# Altium schematic symbol library Active-Relay.SchLib: 33 symbols
Pins are listed as number, name and electrical type; pins without a type are passive.

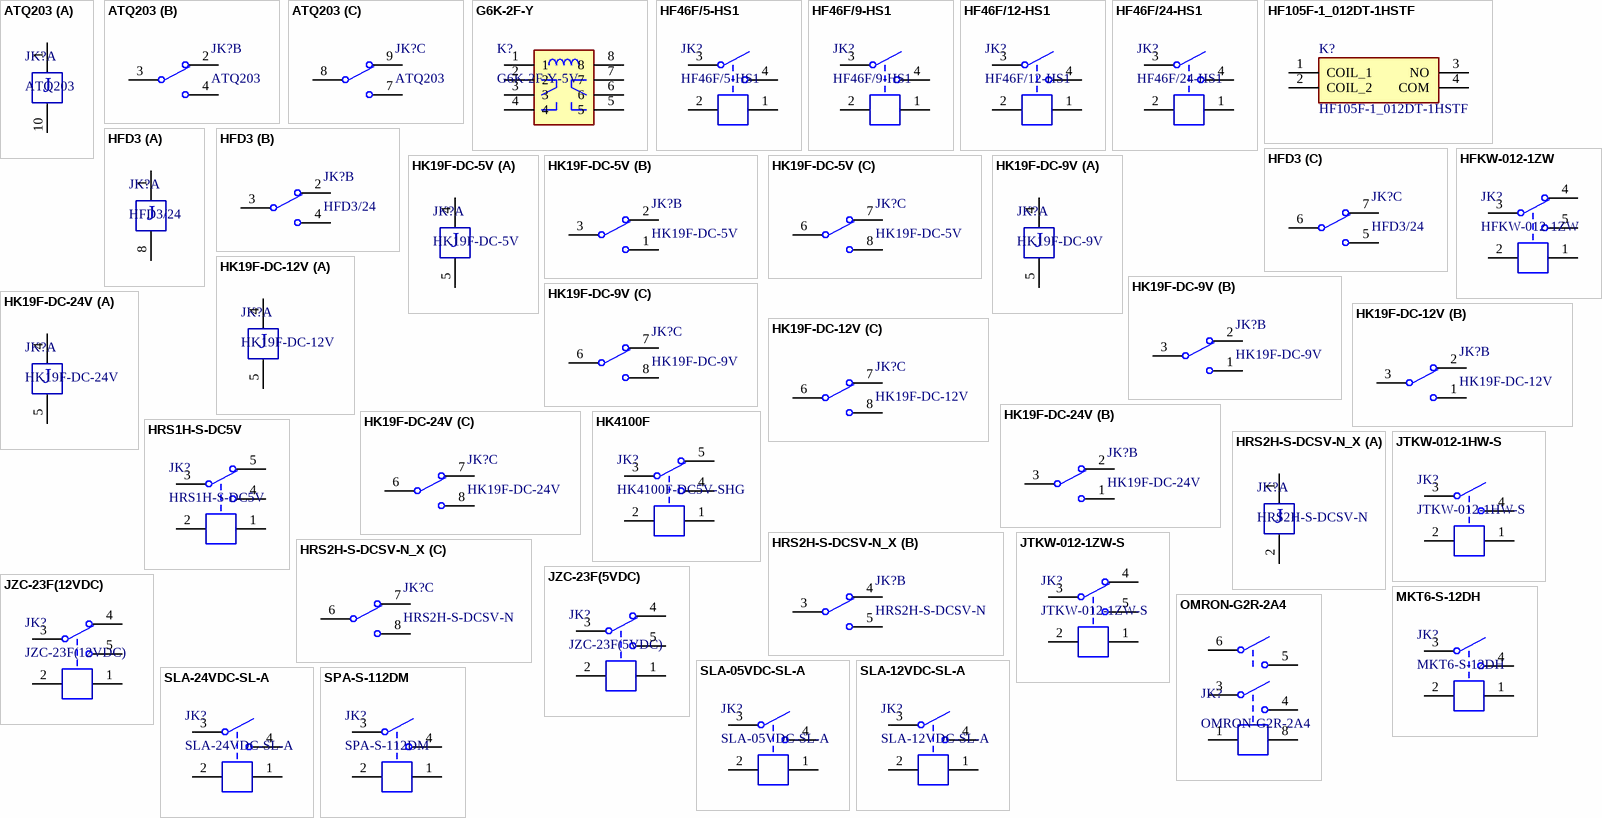
[diagram p0: symbols ATQ203 to SPA-S-112DM]

## ATQ203
designator JK?
12V两组转换
footprint ATQ203 (双刀双投)
part A pins: 1, 10
part B pins: 2, 3, 4
part C pins: 7, 8, 9
part A text: J

## G6K-2F-Y
designator K?, comment G6K-2F-Y-5V
信号继电器; Manufacturer_Name: OMRON(欧姆龙); Manufacturer_Part_Number: G6K-2F-Y-5V
footprint G6K-2F-Y (OMRON(欧姆龙)  G6K-2F-Y-5V)
pins: 1, 2, 3, 4, 5, 6, 7, 8

## HF46F/5-HS1
designator JK?
5V一组常开
footprint HF46-xx-HS1 (一组常开，长：20.5mm，宽：7mm，高：15.3mm)
pins: 1, 2, 3, 4

## HF46F/9-HS1
designator JK?
9V一组常开
footprint HF46-xx-HS1 (一组常开，长：20.5mm，宽：7mm，高：15.3mm)
pins: 1, 2, 3, 4

## HF46F/12-HS1
designator JK?
12V一组常开
footprint HF46-xx-HS1 (一组常开，长：20.5mm，宽：7mm，高：15.3mm)
pins: 1, 2, 3, 4

## HF46F/24-HS1
designator JK?
24V一组常开
footprint HF46-xx-HS1 (一组常开，长：20.5mm，宽：7mm，高：15.3mm)
pins: 1, 2, 3, 4

## HF105F-1_012DT-1HSTF
designator K?
Relay or Contactor; Manufacturer_Name: Hongfa; Manufacturer_Part_Number: HF105F-1/012DT-1HSTF
footprint HF105F1012DT1HSTF
pins: 1 COIL_1, 2 COIL_2, 3 NO, 4 COM

## HFD3
designator JK?, comment HFD3/24
超小型两组转换
footprint HFD3-DIP (超小型型号继电器（15mm*7.5mm*9mm))
footprint HFD3-SMD (超小型型号继电器（15mm*7.5mm*9mm))
part A pins: 1, 8
part B pins: 2, 3, 4
part C pins: 5, 6, 7
part A text: J

## HFKW-012-1ZW
designator JK?
12V一组转换
footprint 012-1ZW_W (单刀双投)
pins: 1, 2, 3, 4, 5

## HK19F-DC-5V
designator JK?
5V两组转换
footprint HK19F-DC (单刀双投，长：20.2mm，宽：10mm，高：12mm)
part A pins: 4, 5
part B pins: 1, 2, 3
part C pins: 6, 7, 8
part A text: J

## HK19F-DC-9V
designator JK?
9V两组转换
footprint HK19F-DC (单刀双投，长：20.2mm，宽：10mm，高：12mm)
part A pins: 4, 5
part B pins: 1, 2, 3
part C pins: 6, 7, 8
part A text: J

## HK19F-DC-12V
designator JK?
12V两组转换
footprint HK19F-DC (单刀双投，长：20.2mm，宽：10mm，高：12mm)
part A pins: 4, 5
part B pins: 1, 2, 3
part C pins: 6, 7, 8
part A text: J

## HK19F-DC-24V
designator JK?
24V两组转换
footprint HK19F-DC (单刀双投，长：20.2mm，宽：10mm，高：12mm)
part A pins: 4, 5
part B pins: 1, 2, 3
part C pins: 6, 7, 8
part A text: J

## HK4100F
designator JK?, comment HK4100F-DC5V-SHG
一组转换
footprint HK4100F (Footprint not found)
pins: 1, 2, 3, 4, 5

## HRS1H-S-DC5V
designator JK?
5V一组转换
footprint HRS1H (单刀双投)
pins: 1, 2, 3, 4, 5

## HRS2H-S-DCSV-N_X
designator JK?, comment HRS2H-S-DCSV-N
5V两组转换
footprint HRS2H (双刀双投)
part A pins: 1, 2
part B pins: 3, 4, 5
part C pins: 6, 7, 8
part A text: J

## JTKW-012-1HW-S
designator JK?
12V一组常开
footprint 012-1HW_BK (单刀单投/常开)
pins: 1, 2, 3, 4

## JTKW-012-1ZW-S
designator JK?
12V一组转换
footprint 012-1ZW_BK (单刀双投)
pins: 1, 2, 3, 4, 5

## JZC-23F(5VDC)
designator JK?
5V单路双控
footprint JZC-23F(4123) (双控继电器)
pins: 1, 2, 3, 4, 5

## JZC-23F(12VDC)
designator JK?
12V单路双控
footprint JZC-23F(4123) (双控继电器)
pins: 1, 2, 3, 4, 5

## MKT6-S-12DH
designator JK?
12V一组常开
footprint MKT6-S-12DH (单刀单投/常开)
pins: 1, 2, 3, 4

## OMRON-G2R-2A4
designator JK?
12V 2组常开
footprint RELAY-TH_6PIN_G2R-2-12VDC
pins: 1, 3, 4, 5, 6, 8

## SLA-05VDC-SL-A
designator JK?
5V一组常开
footprint SLA-xxVDC-SL-A (一组常开，长：32mm，宽：27.6mm，高：20mm)
pins: 1, 2, 3, 4

## SLA-12VDC-SL-A
designator JK?
12V一组常开
footprint SLA-xxVDC-SL-A (一组常开，长：32mm，宽：27.6mm，高：20mm)
pins: 1, 2, 3, 4

## SLA-24VDC-SL-A
designator JK?
24V一组常开
footprint SLA-xxVDC-SL-A (一组常开，长：32mm，宽：27.6mm，高：20mm)
pins: 1, 2, 3, 4

## SPA-S-112DM
designator JK?
12V一组常开
footprint SPA-S-112DM (单刀单投/常开)
pins: 1, 2, 3, 4

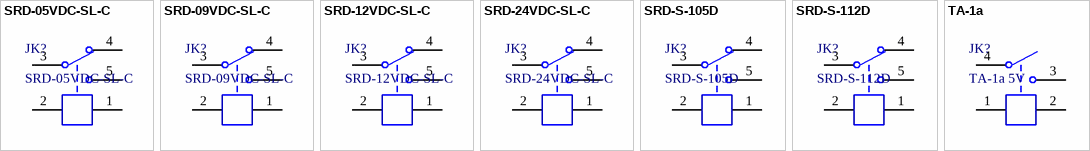
[diagram p1: symbols SRD-05VDC-SL-C to TA-1a]

## SRD-05VDC-SL-C
designator JK?
5V一组转换
footprint SRD-C_B (单刀双投)
pins: 1, 2, 3, 4, 5

## SRD-09VDC-SL-C
designator JK?
9V一组转换
footprint SRD-C_B (单刀双投)
pins: 1, 2, 3, 4, 5

## SRD-12VDC-SL-C
designator JK?
12V一组转换
footprint SRD-C_B (单刀双投)
pins: 1, 2, 3, 4, 5

## SRD-24VDC-SL-C
designator JK?
24V一组转换
footprint SRD-C_B (单刀双投)
pins: 1, 2, 3, 4, 5

## SRD-S-105D
designator JK?
5V一组转换
footprint SRD-C_BK (单刀双投)
pins: 1, 2, 3, 4, 5

## SRD-S-112D
designator JK?
12V一组转换
footprint SRD-C_BK (单刀双投)
pins: 1, 2, 3, 4, 5

## TA-1a
designator JK?, comment TA-1a 5V
一组常开
footprint TA-1a (微功耗超薄继电器21mm*5mm*12.5mm(长*宽*高))
pins: 1, 2, 3, 4